# EAGLE library part MICROHAL_CONNECTOR_M_2 (library microhal-connector_v0.1)
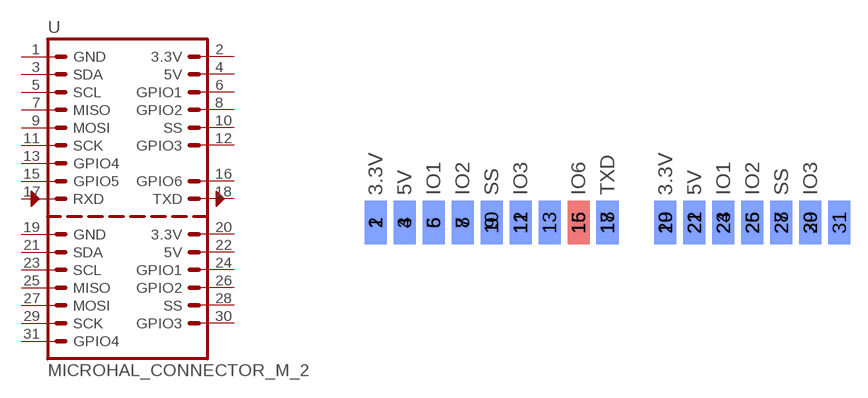
[diagram p3: symbol with the pads of MICROHAL_CONNECTOR_M_2_EDGE; footprint MICROHAL_CONNECTOR_M_2_EDGE]

Designator prefix -

## MICROHAL_CONNECTOR_M_2  [MICROHAL_CONNECTOR_M_2_EDGE]
1  GND  pas
2  3.3V  pas
3  SDA  pas
4  5V  pas
5  SCL  pas
6  GPIO1  pas
7  MISO  pas
8  GPIO2  pas
9  MOSI  pas
10  SS  pas
11  SCK  pas
12  GPIO3
13  GPIO4
15  GPIO5
16  GPIO6
17  RXD  pas
18  TXD  pas
19  GND  pas
20  3.3V  pas
21  SDA  pas
22  5V  pas
23  SCL  pas
24  GPIO1  pas
25  MISO  pas
26  GPIO2  pas
27  MOSI  pas
28  SS  pas
29  SCK  pas
30  GPIO3
31  GPIO4

## Footprint MICROHAL_CONNECTOR_M_2_EDGE (pad centres in mm)
smd 1.93 x 3.81 bottom: 1 -21.59,0; 3 -19.05,0; 5 -16.51,0; 7 -13.97,0; 9 -11.43,0; 11 -8.89,0; 13 -6.35,0; 15 -3.81,0; 17 -1.27,0; 19 3.81,0; 21 6.35,0; 23 8.89,0; 25 11.43,0; 27 13.97,0; 29 16.51,0; 31 19.05,0
smd 1.93 x 3.81: 2 -21.59,0; 4 -19.05,0; 6 -16.51,0; 8 -13.97,0; 10 -11.43,0; 12 -8.89,0; 16 -3.81,0; 18 -1.27,0; 20 3.81,0; 22 6.35,0; 24 8.89,0; 26 11.43,0; 28 13.97,0; 30 16.51,0